# Altium footprint library scatbasic.PcbLib: 33 footprints (part 1 of 3)
Each footprint in its own frame and in the unit in brackets; x right, y up, seen from the top. Pads: shape width x height; smd on the part's side, far side on the other; paste and mask are expansions set on the pad; w line width, h text height; cw(c..) or ccw(c..) is an arc to the next point about the centre after c.
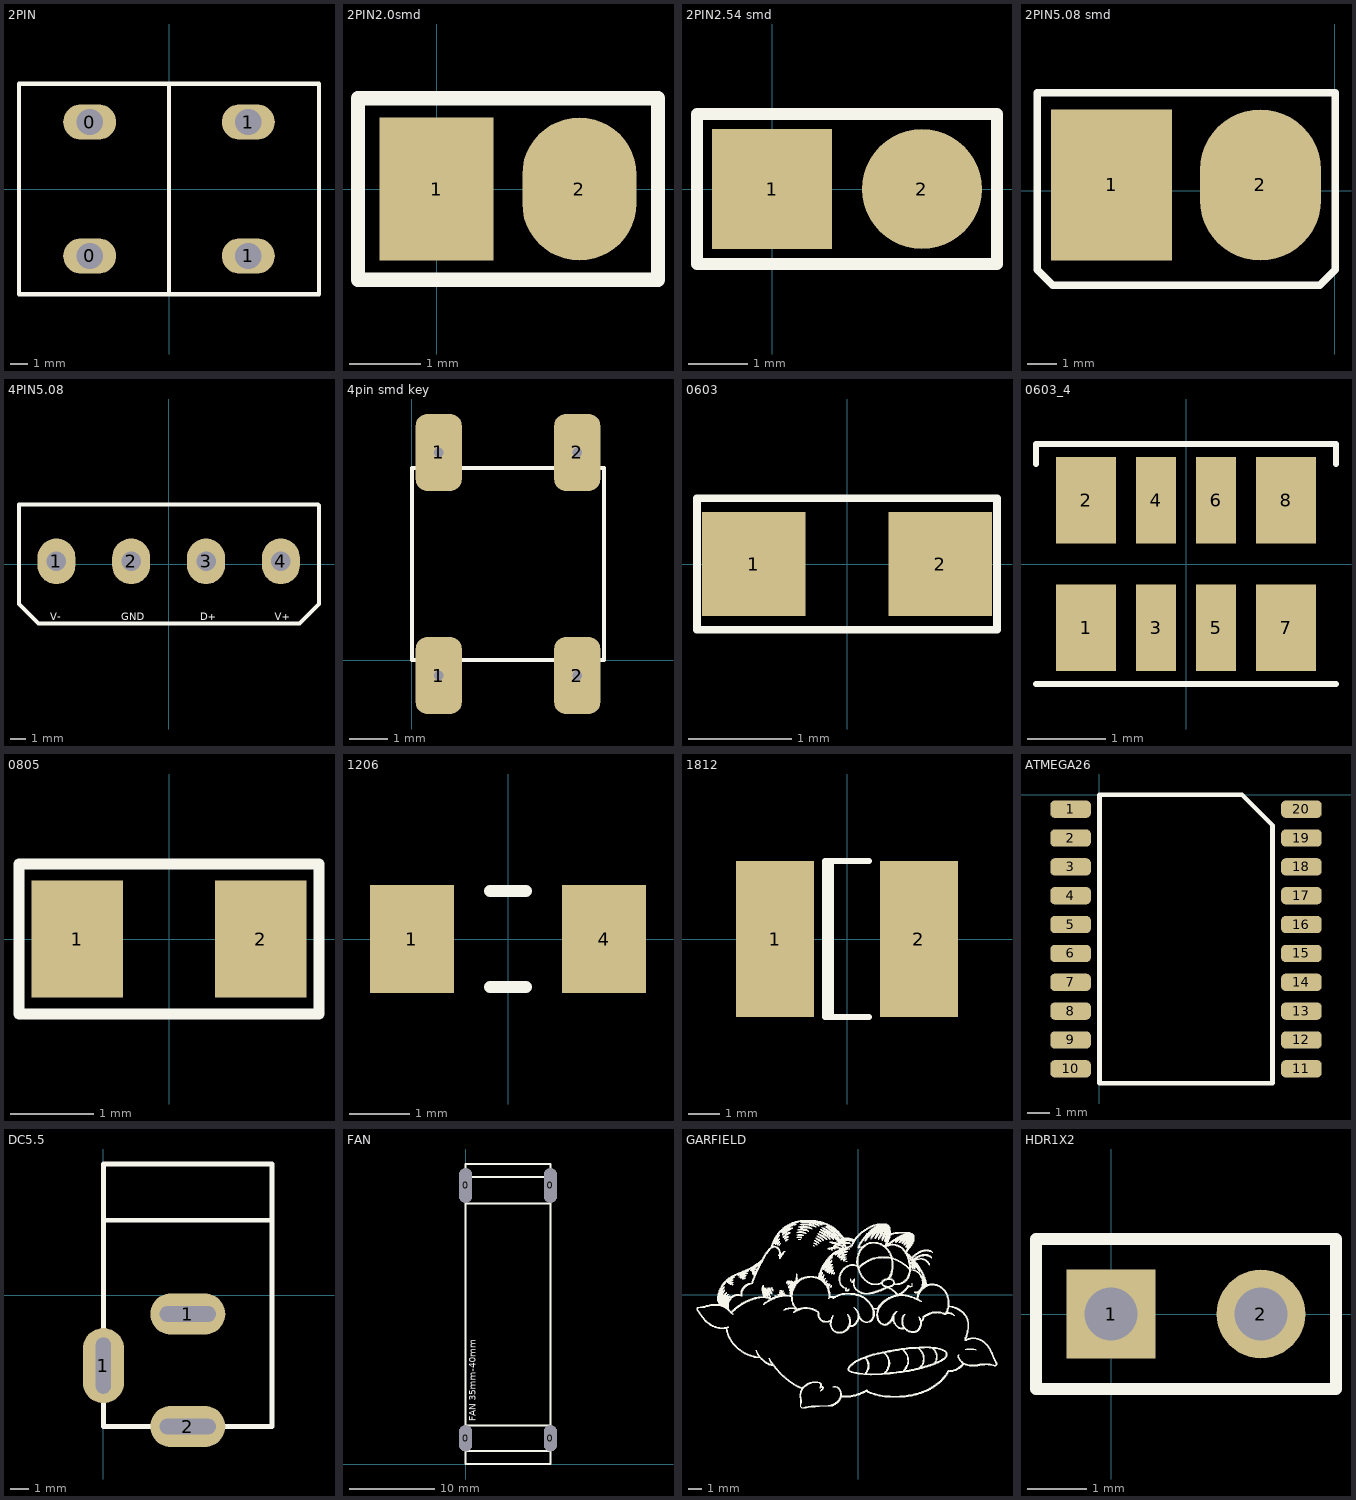
[diagram p0: the footprints below, top view; thin cyan lines are the x and y axes]

## 2PIN [mm]
pads (4):
  oval 3x2 hole 1.5: 0(-4.5,-3.8) 0(-4.5,3.8) 1(4.5,-3.8) 1(4.5,3.8)
Top Overlay:
  lines w0.254: 0,-5.842 0,5.969 ; -8.509,-5.969 8.509,-5.969 8.509,5.969 -8.509,5.969 -8.509,-5.969

## 2PIN2.0smd [mm] "Connector; Header; 2 Position"
pads (2):
  rect 1.6x2 smd: 1(0,0)
  oval 1.6x2 smd: 2(2,0)
Top Overlay:
  lines w0.2: -1.1,-1.27 3.1,-1.27 3.1,1.27 -1.1,1.27 -1.1,-1.27

## 2PIN2.54 smd [mil] "Connector; Header; 2 Position"
pads (2):
  rect 80x80 smd: 1(0,0)
  round 80 smd: 2(100,0)
Top Overlay:
  lines w7.87: -50,-50 -50,50 150,50 150,-50 -50,-50

## 2PIN5.08 smd [mm]
pads (2):
  rect 4.064x5.08 smd: 1(-7.5,0.2)
  oval 4.064x5.08 smd: 2(-2.5,0.2)
Top Overlay:
  lines w0.254: -10,-2.65 -9.475,-3.175 -0.508,-3.175 0.017,-2.65 0.017,3.302 -10,3.302 -10,-2.65

## 4PIN5.08 [mm]
pads (4):
  oval 2.54x3.048 hole 1.3: 1(-7.5,0.2) 2(-2.5,0.2) 3(2.5,0.2) 4(7.5,0.2)
Top Overlay:
  lines w0.254: 10,4 -10,4 -10,-2.65 -8.7,-3.95 8.75,-3.95 10.05,-2.65 10.05,3.95
  text "V+" at 7.1,-3.75 h0.5
  text "D+" at 2.1,-3.75 h0.5
  text "GND" at -3.15,-3.75 h0.5
  text "V-" at -7.9,-3.75 h0.5

## 4pin smd key [mm]
pads (4):
  rrect50% 1.2x2 hole 0.254: 1(0.7,-0.4) 1(0.7,5.4) 2(4.3,-0.4) 2(4.3,5.4)
Top Overlay:
  lines w0.1: 0,0 0,5 5,5 5,0 0,0

## 0603 [mm]
height 0.5
pads (2):
  rect 1x1 smd: 1(-0.9,0) 2(0.9,0)
Top Overlay:
  lines w0.076: -1.448,-0.635 1.448,-0.635 1.448,0.635 -1.448,0.635 -1.448,-0.635

## 0603_4 [mil]
height 19.68
pads (8):
  rect 30x43.31 smd: 1(-50,-31.97) 2(-50,31.97) 7(50,-31.97) 8(50,31.97)
  rect 20x43.31 smd: 3(-15,-31.97) 4(-15,31.97) 5(15,-31.97) 6(15,31.97)
Top Overlay:
  lines w3: -75,-60 75,-60 ; -75,50 -75,60 75,60 75,50

## 0805 [mm]
pads (2):
  rect 1.1x1.4 smd: 1(-1.1,0) 2(1.1,0)
Top Overlay:
  lines w0.127: -1.8,-0.9 1.8,-0.9 1.8,0.9 -1.8,0.9 -1.8,-0.9

## 1206 [mm]
pads (2):
  rect 1.4x1.8 smd: 1(-1.6,0) 4(1.6,0)
Top Overlay:
  lines w0.2: -0.3,-0.8 0.3,-0.8 ; -0.3,0.8 0.3,0.8

## 1812 [mm]
pads (2):
  rect 2.5x5 smd: 1(-2.3,0) 2(2.3,0)
Top Overlay:
  lines w0.2: -0.51,-2.4 -0.51,2.4 ; 0.7,-2.5 -0.7,-2.5 -0.7,2.5 0.7,2.5

## ATMEGA26 [mil]
pads (20):
  rrect50% 70x30 smd: 1(-50,-25) 2(-50,-75) 3(-50,-125) 4(-50,-175) 5(-50,-225) 6(-50,-275) 7(-50,-325) 8(-50,-375) 9(-50,-425) 10(-50,-475) 11(350,-475) 12(350,-425) 13(350,-375) 14(350,-325) 15(350,-275) 16(350,-225) 17(350,-175) 18(350,-125) 19(350,-75) 20(350,-25)
Top Overlay:
  lines w8: 0,-500 300,-500 300,-53 247,0 0,0 0,-500

## DC5.5 [mm]
pads (3):
  oval 2.2x4 hole 0.813 slot 3 at 90 deg: 1(0,-3.75)
  oval 4x2.2 hole 0.813 slot 3 at 0 deg: 1(4.5,-1) 2(4.5,-7)
Top Overlay:
  lines w0.254: 0,4 9,4 ; 0,-7 9,-7 9,7 0,7 0,-7

## FAN [mm]
height 35
pads (4):
  oval 1.5x3 hole 1.5 slot 3 at 90 deg: 0(0,3) 0(9.9,3)
  oval 1.5x4 hole 1.5 slot 4 at 90 deg: 0(0,32.5) 0(9.9,32.5)
Top Overlay:
  lines w0.254: 0,4.5 9.9,4.5 ; 0,30.4 9.9,30.4 ; 0,33.5 9.9,33.5 ; 0.1,1.5 9.9,1.5 ; 0,0 0,35 9.9,35 9.9,0 0,0
  text "FAN 35mm-40mm" at 1.2,5 h0.75
Keep-Out Layer:
  lines w1.5: 0,2.25 0,3.75 ; 0,31.25 0,32.75 ; 9.9,2.25 9.9,3.75 ; 9.9,31.25 9.9,32.75
Mechanical 1:
  lines w1.5: 0,2.25 0,3.75 ; 0,31.25 0,32.75 ; 9.9,2.25 9.9,3.75 ; 9.9,31.25 9.9,32.75

## GARFIELD [mm]
Top Overlay:
  drawing of 11080 lines, arcs and shapes, not listed

## HDR1X2 [mm] "Connector; Header; 2 Position"
pads (2):
  rect 1.5x1.5 hole 0.9: 1(0,0)
  round 1.5 hole 0.9: 2(2.54,0)
Top Overlay:
  lines w0.2: -1.27,-1.27 3.81,-1.27 3.81,1.27 -1.27,1.27 -1.27,-1.27